# EAGLE library part SSM2210 (library synthdiy)
Audio Dual Matched NPN TRANSISTOR
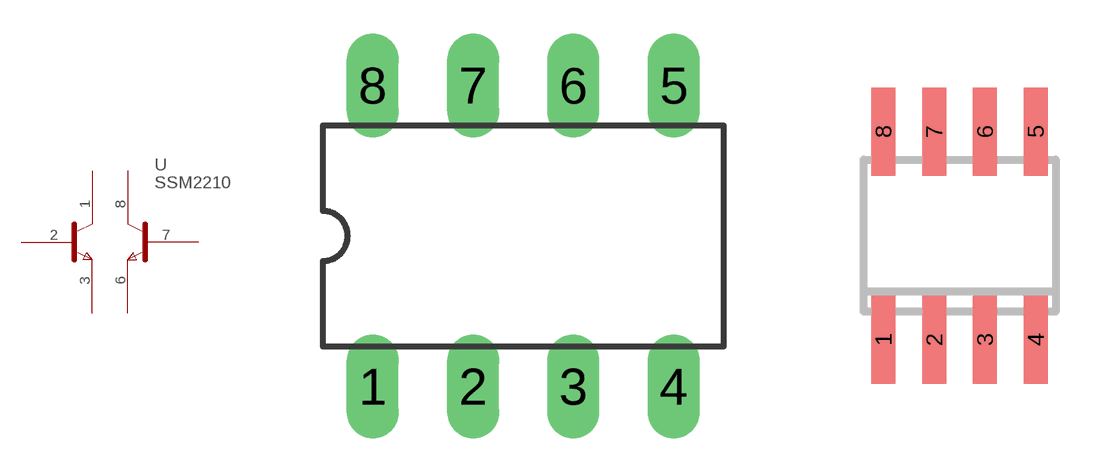
[diagram p14: symbol with the pads of DIL08; footprints DIL08, SO08]

Designator prefix -

## SSM2210P  [DIL08]
1  C1  pas
2  B1  pas
3  E1  pas
6  E2  pas
7  B2  pas
8  C2  pas

## SSM2210S  [SO08]
Pads as for DIL08

## Footprint DIL08 (pad centres in mm)
Dual In Line 8
drill 0.813 long: 1 -3.81,-3.81; 2 -1.27,-3.81; 3 1.27,-3.81; 4 3.81,-3.81; 5 3.81,3.81; 6 1.27,3.81; 7 -1.27,3.81; 8 -3.81,3.81

## Footprint SO08 (pad centres in mm)
Small Outline Package 8
smd 0.6 x 2.2: 1 -1.905,-2.6; 2 -0.635,-2.6; 3 0.635,-2.6; 4 1.905,-2.6; 5 1.905,2.6; 6 0.635,2.6; 7 -0.635,2.6; 8 -1.905,2.6